# Altium footprint library PcbLib1.PcbLib: 13 footprints
Each footprint in its own frame and in the unit in brackets; x right, y up, seen from the top. Pads: shape width x height; smd on the part's side, far side on the other; paste and mask are expansions set on the pad; w line width, h text height; cw(c..) or ccw(c..) is an arc to the next point about the centre after c.
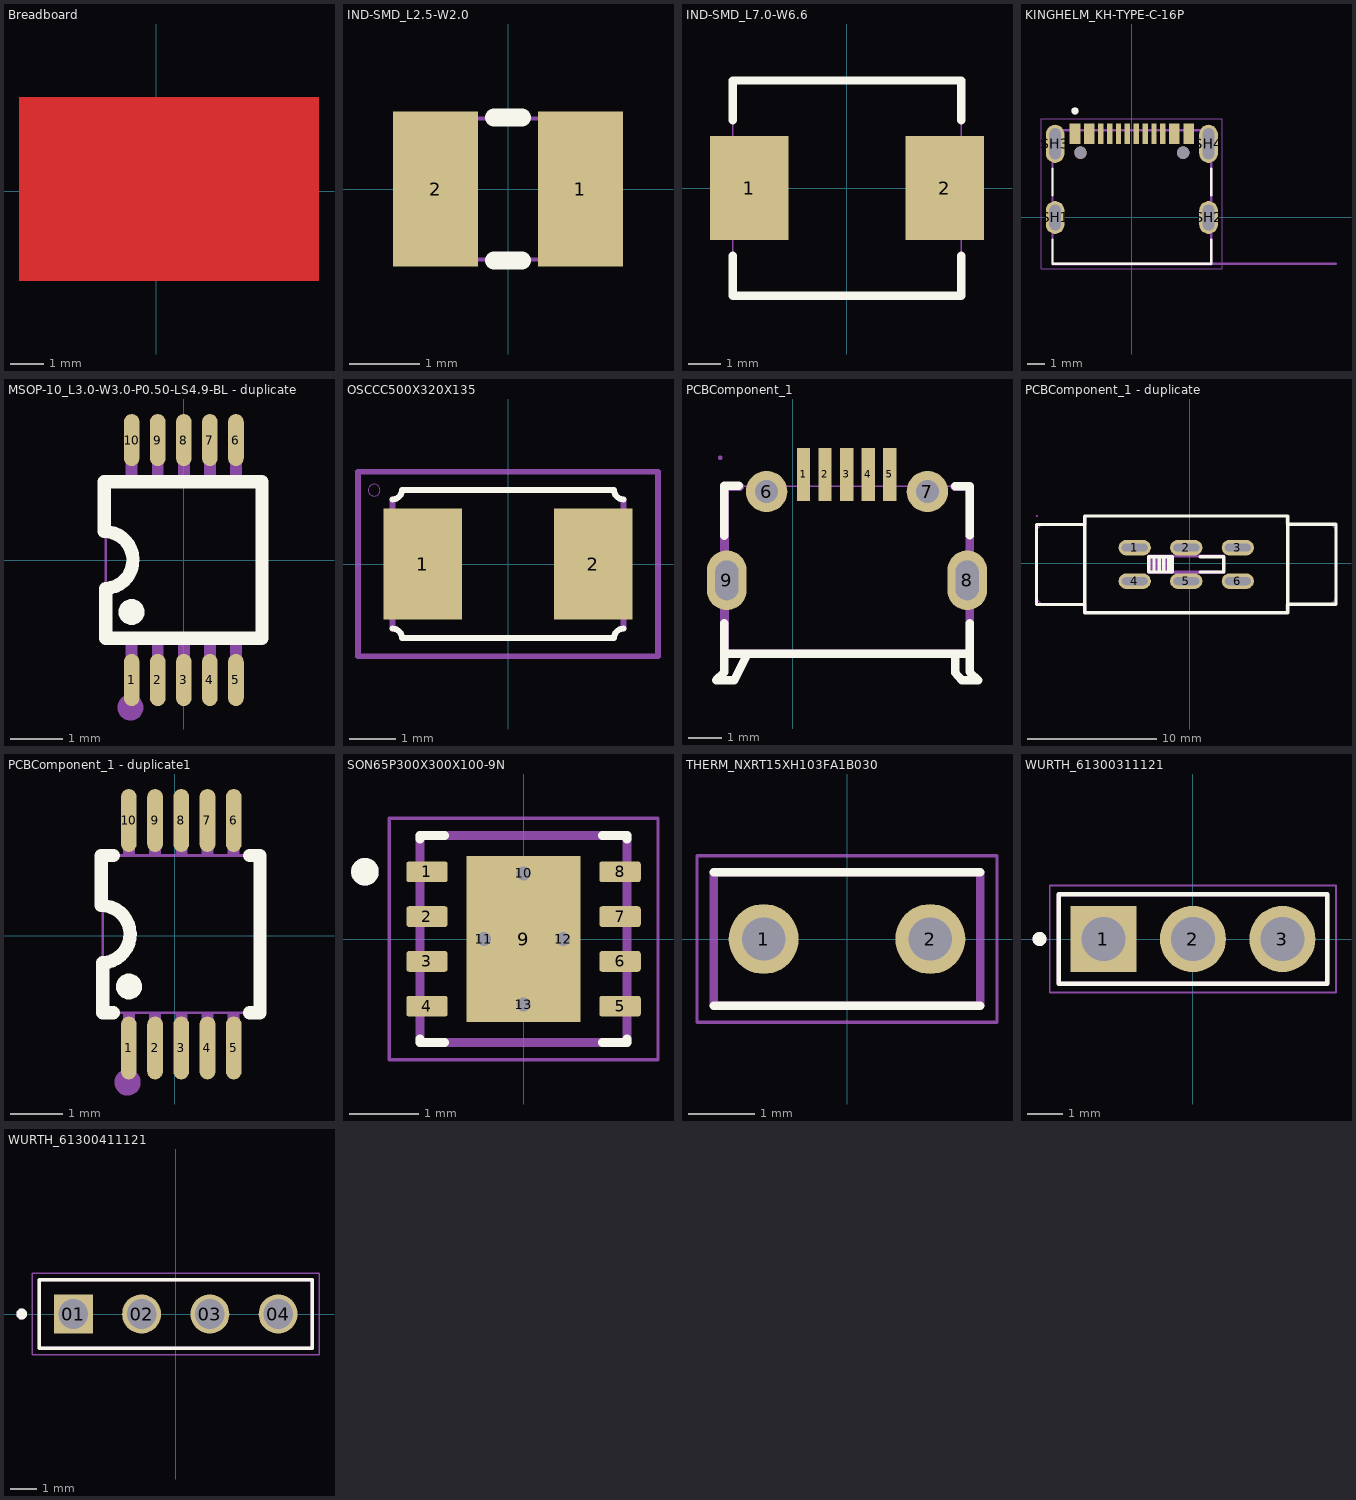
[diagram p0: the footprints below, top view; thin cyan lines are the x and y axes]

## Breadboard [mm]
Top Layer:
  rectangle: -4.064,-2.667 4.826,2.794
3D body "Breadboard 400.stp": height -0.07, standoff -8.48, extent -25.774,-40.534 30.226,45.466

## IND-SMD_L2.5-W2.0 [mm]
pads (2):
  rect 1.2x2.2 smd: 1(1.028,0) 2(-1.028,0)
Top Overlay:
  lines w0.254: -0.197,-1.016 0.197,-1.016 ; -0.197,1.016 0.197,1.016
Mechanical 15:
  region: -1.25,1 -0.45,1 -0.45,-1 -1.25,-1
  region: 0.45,1 1.25,1 1.25,-1 0.45,-1
  region: -1.16,-0.97 -1.16,-0.995 -1.195,-1.03 -1.245,-1.03 -1.28,-0.995 -1.28,-0.97 -1.28,-0.945 -1.245,-0.91 -1.195,-0.91 -1.16,-0.945
  lines w0.051: -1.25,-1 -1.25,1 1.25,1 1.25,-1 -1.25,-1

## IND-SMD_L7.0-W6.6 [mm]
pads (2):
  rect 2.4x3.2 smd: 1(-3,0) 2(3,0)
Top Overlay:
  lines w0.254: -3.5,-2.081 -3.5,-3.3 -3.49,-3.3 3.5,-3.3 3.5,-2.081 ; -3.5,2.081 -3.5,3.3 3.48,3.3 3.5,3.28 ; 3.5,2.081 3.5,3.3
Mechanical 15:
  region: -1.9,-1.5 -3.5,-1.5 -3.5,1.5 -1.9,1.5
  region: 1.9,1.5 3.5,1.5 3.5,-1.5 1.9,-1.5
  region: -3.44,-3.3 -3.44,-3.325 -3.475,-3.36 -3.525,-3.36 -3.56,-3.325 -3.56,-3.3 -3.56,-3.275 -3.525,-3.24 -3.475,-3.24 -3.44,-3.275
  lines w0.051: -3.5,-3.3 3.5,-3.3 3.5,3.3 -3.5,3.3 -3.5,-3.3

## KINGHELM_KH-TYPE-C-16P [mm]
height 3.41
pads (18):
  rect 0.6x1.15 smd: A1_B12(-3.2,4.725) A4_B9(-2.4,4.725) A9_B4(2.4,4.725) A12_B1(3.2,4.725)
  rect 0.3x1.15 smd: A5(-1.25,4.725) A6(-0.25,4.725) A7(0.25,4.725) A8(1.25,4.725) B5(1.75,4.725) B6(0.75,4.725) B7(-0.75,4.725) B8(-1.75,4.725)
  oval 1.05x1.85 hole 0.65 slot 1.45 at 90 deg: SH1(-4.32,0) SH2(4.32,0)
  oval 1.05x2.15 hole 0.65 slot 1.75 at 90 deg: SH3(-4.32,4.15) SH4(4.32,4.15)
  round 0.7 hole 0.7 unplated: ""(-2.89,3.65) ""(2.89,3.65)
Top Overlay:
  circle w0.2: c-3.2,6 r0.1
  lines w0.127: -4.47,-1.25 -4.47,-2.6 4.47,-2.6 4.47,-1.25 ; -4.47,1.25 -4.47,2.75 ; 4.47,1.25 4.47,2.75
Mechanical 13:
  circle w0.2: c-3.2,6 r0.1
  lines w0.127: 11.5,-2.6 4.47,-2.6 ; -4.47,-2.6 4.47,-2.6 ; -4.47,-2.6 -4.47,4.91 4.47,4.91 4.47,-2.6 ; -4.47,-2.6 -4.47,-2.64 4.47,-2.64 4.47,-2.6
  text "PCB EDGE" at 5.5,-2.25 h0.81
Mechanical 15:
  lines w0.05: -5.095,-2.89 5.095,-2.89 5.095,5.55 -5.095,5.55 -5.095,-2.89
3D body "step_temp.STEP": height 3.41, standoff -1.1, extent -4.47,-2.667 4.47,5.143

## MSOP-10_L3.0-W3.0-P0.50-LS4.9-BL - duplicate [mm]
pads (10):
  oval 0.3x1 smd: 1(-1,-2.3) 2(-0.5,-2.3) 3(0,-2.3) 4(0.5,-2.3) 5(1,-2.3) 6(1,2.3) 7(0.5,2.3) 8(0,2.3) 9(-0.5,2.3) 10(-1,2.3)
Top Overlay:
  region: -1.243,-1 -1.243,-0.952 -1.206,-0.862 -1.138,-0.794 -1.048,-0.757 -0.952,-0.757 -0.862,-0.794 -0.794,-0.862 -0.757,-0.952 -0.757,-1 -0.757,-1.048 -0.794,-1.138 -0.862,-1.206 -0.952,-1.243 -1.048,-1.243 -1.138,-1.206 -1.206,-1.138 -1.243,-1.048
  lines w0.254: 1.3,1.5 1.5,1.5 ; 1.5,1.5 -1.3,1.5 -1.524,1.5 -1.524,0.546 cw(c-1.522,0) -1.499,-0.546 -1.499,-1.5 -1.3,-1.5 1.3,-1.5 1.5,-1.5 1.5,1.5
Mechanical 6:
  circle w0.25: c-1.024,-2.828 r0.125
Mechanical 15:
  region: -0.94,-1 -0.94,-1.025 -0.975,-1.06 -1.025,-1.06 -1.06,-1.025 -1.06,-1 -1.06,-0.975 -1.025,-0.94 -0.975,-0.94 -0.94,-0.975
  region: -1.11,1.49 -1.11,1.93 -0.89,1.93 -0.89,1.49
  region: -1.11,1.92 -1.11,2.45 -0.89,2.45 -0.89,1.92
  region: -0.61,1.49 -0.61,1.93 -0.39,1.93 -0.39,1.49
  region: -0.61,1.92 -0.61,2.45 -0.39,2.45 -0.39,1.92
  region: -0.11,1.49 -0.11,1.93 0.11,1.93 0.11,1.49
  region: -0.11,1.92 -0.11,2.45 0.11,2.45 0.11,1.92
  region: 0.39,1.49 0.39,1.93 0.61,1.93 0.61,1.49
  region: 0.39,1.92 0.39,2.45 0.61,2.45 0.61,1.92
  region: 0.89,1.49 0.89,1.93 1.11,1.93 1.11,1.49
  region: 0.89,1.92 0.89,2.45 1.11,2.45 1.11,1.92
  region: 0.89,-1.93 0.89,-1.49 1.11,-1.49 1.11,-1.93
  region: 0.89,-2.45 0.89,-1.92 1.11,-1.92 1.11,-2.45
  region: 0.39,-1.93 0.39,-1.49 0.61,-1.49 0.61,-1.93
  region: 0.39,-2.45 0.39,-1.92 0.61,-1.92 0.61,-2.45
  region: -0.11,-1.93 -0.11,-1.49 0.11,-1.49 0.11,-1.93
  region: -0.11,-2.45 -0.11,-1.92 0.11,-1.92 0.11,-2.45
  region: -0.61,-1.93 -0.61,-1.49 -0.39,-1.49 -0.39,-1.93
  region: -0.61,-2.45 -0.61,-1.92 -0.39,-1.92 -0.39,-2.45
  region: -1.11,-1.93 -1.11,-1.49 -0.89,-1.49 -0.89,-1.93
  region: -1.11,-2.45 -1.11,-1.92 -0.89,-1.92 -0.89,-2.45
  lines w0.051: -1.5,-1.5 1.5,-1.5 1.5,1.5 -1.5,1.5 -1.5,-1.5

## OSCCC500X320X135 [mm]
pads (2):
  rect 1.7x2.4 smd: 1(-1.85,0) 2(1.85,0)
Top Overlay:
  lines w0.127: -2.5,-1.4 cw(c-2.5,-1.6) -2.3,-1.6 2.3,-1.6 cw(c2.5,-1.6) 2.5,-1.4 ; -2.5,1.4 ccw(c-2.5,1.6) -2.3,1.6 2.3,1.6 ccw(c2.5,1.6) 2.5,1.4
Mechanical 13:
  circle w0: c-2.9,1.6 r0.127
  lines w0.127: -2.5,-1.4 -2.5,1.4 ; 2.5,-1.4 2.5,1.4
Mechanical 15:
  lines w0.127: -3.25,-2 3.25,-2 3.25,2 -3.25,2 -3.25,-2

## PCBComponent_1 [mm]
pads (9):
  rect 0.4x1.6 smd paste-100 mask+0.05: 1(0.329,-108.446) 2(0.979,-108.446) 3(1.629,-108.446) 4(2.279,-108.446) 5(2.929,-108.446)
  round 1.25 hole 0.7: 6(-0.786,-108.966) 7(4.064,-108.966)
  oval 1.2x1.8 hole 0.7 slot 1.2 at 90 deg copper offset 0,0: 8(5.264,-111.646) 9(-1.986,-111.646)
Top Overlay:
  lines w0.254: -2.061,-112.938 -2.061,-113.859 ; -2.061,-110.294 -2.061,-110.059 -2.061,-108.796 -1.625,-108.796 ; -1.35,-113.858 -1.757,-114.659 -2.307,-114.658 -2.061,-114.412 -2.061,-113.859 ; 4.905,-108.809 5.339,-108.809 5.339,-108.86 5.339,-110.292 ; 4.908,-113.859 4.908,-114.431 5.095,-114.659 5.593,-114.659 5.339,-114.405 5.339,-113.859 ; 5.339,-112.938 5.339,-113.859 ; -2.061,-113.859 5.339,-113.859
Top Paste:
  drawing of 9 lines, arcs and shapes, not listed
Mechanical 6:
  region: -1.607,-108.936 -1.93,-108.936 -1.93,-113.732 5.216,-113.732 5.216,-108.936 4.893,-108.936 4.84,-108.936 4.766,-108.861 4.766,-108.756 4.84,-108.682 4.893,-108.682 5.343,-108.682 5.368,-108.682 5.415,-108.701 5.45,-108.737 5.47,-108.783 5.47,-108.809 5.47,-113.859 5.47,-113.884 5.45,-113.931 5.415,-113.966 5.368,-113.986 5.343,-113.986 -2.057,-113.986 -2.083,-113.986 -2.129,-113.966 -2.165,-113.931 -2.184,-113.884 -2.184,-113.859 -2.184,-108.809 -2.184,-108.783 -2.165,-108.737 -2.129,-108.701 -2.083,-108.682 -2.057,-108.682 -1.607,-108.682 -1.555,-108.682 -1.48,-108.756 -1.48,-108.861 -1.555,-108.936
Mechanical 15:
  region: -2.186,-111.146 -1.786,-111.146 -1.786,-112.146 -2.186,-112.146
  region: 5.064,-111.146 5.464,-111.146 5.464,-112.146 5.064,-112.146
  region: -0.986,-108.766 -0.586,-108.766 -0.586,-109.166 -0.986,-109.166
  region: 3.864,-108.766 4.264,-108.766 4.264,-109.166 3.864,-109.166
  region: 2.804,-107.946 3.054,-107.946 3.054,-108.946 2.804,-108.946
  region: 2.154,-107.946 2.404,-107.946 2.404,-108.946 2.154,-108.946
  region: 1.504,-107.946 1.754,-107.946 1.754,-108.946 1.504,-108.946
  region: 0.854,-107.946 1.104,-107.946 1.104,-108.946 0.854,-108.946
  region: 0.204,-107.946 0.454,-107.946 0.454,-108.946 0.204,-108.946
  region: -2.126,-107.946 -2.126,-107.971 -2.161,-108.006 -2.211,-108.006 -2.246,-107.971 -2.246,-107.946 -2.246,-107.921 -2.211,-107.886 -2.161,-107.886 -2.126,-107.921
  lines w0.051: -2.061,-113.859 5.339,-113.859 5.339,-108.809 -2.061,-108.809 -2.061,-113.859

## PCBComponent_1 - duplicate [mm]
pads (6):
  oval 2.5x1.2 hole 0.6 slot 2 at 0 deg paste-2539.97 mask+0.05: 1(-4.254,1.203) 2(-0.254,1.203) 3(3.746,1.203) 4(-4.254,-1.397) 5(-0.254,-1.397) 6(3.746,-1.397)
Top Overlay:
  lines w0.254: -8.128,-3.218 -11.874,-3.218 -11.874,3.003 -8.128,3.003 ; -3.16,0.473 -3.16,-0.696 -1.348,-0.696 ; -3.158,0.503 -2.094,0.503 -1.35,0.503 -1.35,-0.696 ; -2.751,-0.696 -2.751,0.503 ; -2.357,-0.696 -2.357,0.503 ; -2.002,-0.696 -2.002,0.503 ; -1.621,-0.696 -1.621,0.503 ; 0.84,-0.696 2.65,-0.696 2.65,0.503 0.842,0.503 ; 7.62,-3.197 11.366,-3.197 11.366,3.024 7.62,3.024 ; -8.128,-3.847 -8.128,3.653 7.62,3.653 7.62,-3.847 -8.128,-3.847
Mechanical 6:
  region: -3.254,0.453 -1.224,0.453 -1.224,-0.607 -3.244,-0.607 -3.234,-0.597
  region: -3.254,0.643 2.736,0.643 2.736,-0.817 -3.234,-0.817 -3.244,-0.827 -3.244,-0.607 2.536,-0.607 2.536,0.453 2.526,0.463 -3.254,0.463
Mechanical 15:
  region: 2.946,-1.197 4.546,-1.197 4.546,-1.597 2.946,-1.597
  region: -1.054,-1.197 0.546,-1.197 0.546,-1.597 -1.054,-1.597
  region: -5.054,-1.197 -3.454,-1.197 -3.454,-1.597 -5.054,-1.597
  region: 2.946,1.403 4.546,1.403 4.546,1.003 2.946,1.003
  region: -1.054,1.403 0.546,1.403 0.546,1.003 -1.054,1.003
  region: -5.054,1.403 -3.454,1.403 -3.454,1.003 -5.054,1.003
  region: -11.794,3.653 -11.794,3.628 -11.829,3.593 -11.879,3.593 -11.914,3.628 -11.914,3.653 -11.914,3.678 -11.879,3.713 -11.829,3.713 -11.794,3.678
  lines w0.051: -11.854,-2.577 ccw(c-11.234,-2.577) -11.234,-3.197 -8.004,-3.197 -8.004,-3.847 7.496,-3.847 7.496,-3.197 10.716,-3.197 ccw(c10.716,-2.567) 11.346,-2.567 11.346,2.403 ccw(c10.746,2.403) 10.746,3.003 7.496,3.003 7.496,3.653 -8.004,3.653 -8.014,3.003 -11.234,3.003 ccw(c-11.234,2.383) -11.854,2.383 -11.854,-2.577

## PCBComponent_1 - duplicate1 [mm]
pads (10):
  oval 0.3x1.2 smd: 1(-0.873,-2.138) 2(-0.373,-2.138) 3(0.127,-2.138) 4(0.627,-2.138) 5(1.127,-2.138) 6(1.127,2.202) 7(0.627,2.202) 8(0.127,2.202) 9(-0.373,2.202) 10(-0.873,2.202)
Top Overlay:
  region: -1.116,-0.968 -1.116,-0.92 -1.079,-0.83 -1.011,-0.762 -0.921,-0.725 -0.825,-0.725 -0.735,-0.762 -0.667,-0.83 -0.63,-0.92 -0.63,-0.968 -0.63,-1.016 -0.667,-1.106 -0.735,-1.174 -0.825,-1.211 -0.921,-1.211 -1.011,-1.174 -1.079,-1.106 -1.116,-1.016
  lines w0.254: -1.173,-1.468 -1.372,-1.468 -1.372,-0.514 ccw(c-1.395,0.032) -1.397,0.578 -1.397,1.532 -1.173,1.532 ; 1.427,-1.468 1.627,-1.468 1.627,1.532 1.427,1.532
Mechanical 6:
  circle w0.25: c-0.897,-2.796 r0.125
Mechanical 15:
  region: -0.983,-2.418 -0.983,-1.888 -0.763,-1.888 -0.763,-2.418
  region: -0.983,-1.898 -0.983,-1.458 -0.763,-1.458 -0.763,-1.898
  region: -0.483,-2.418 -0.483,-1.888 -0.263,-1.888 -0.263,-2.418
  region: -0.483,-1.898 -0.483,-1.458 -0.263,-1.458 -0.263,-1.898
  region: 0.017,-2.418 0.017,-1.888 0.237,-1.888 0.237,-2.418
  region: 0.017,-1.898 0.017,-1.458 0.237,-1.458 0.237,-1.898
  region: 0.517,-2.418 0.517,-1.888 0.737,-1.888 0.737,-2.418
  region: 0.517,-1.898 0.517,-1.458 0.737,-1.458 0.737,-1.898
  region: 1.017,-2.418 1.017,-1.888 1.237,-1.888 1.237,-2.418
  region: 1.017,-1.898 1.017,-1.458 1.237,-1.458 1.237,-1.898
  region: 1.017,1.952 1.017,2.482 1.237,2.482 1.237,1.952
  region: 1.017,1.522 1.017,1.962 1.237,1.962 1.237,1.522
  region: 0.517,1.952 0.517,2.482 0.737,2.482 0.737,1.952
  region: 0.517,1.522 0.517,1.962 0.737,1.962 0.737,1.522
  region: 0.017,1.952 0.017,2.482 0.237,2.482 0.237,1.952
  region: 0.017,1.522 0.017,1.962 0.237,1.962 0.237,1.522
  region: -0.483,1.952 -0.483,2.482 -0.263,2.482 -0.263,1.952
  region: -0.483,1.522 -0.483,1.962 -0.263,1.962 -0.263,1.522
  region: -0.983,1.952 -0.983,2.482 -0.763,2.482 -0.763,1.952
  region: -0.983,1.522 -0.983,1.962 -0.763,1.962 -0.763,1.522
  region: -0.813,-0.968 -0.813,-0.993 -0.848,-1.028 -0.898,-1.028 -0.933,-0.993 -0.933,-0.968 -0.933,-0.943 -0.898,-0.908 -0.848,-0.908 -0.813,-0.943
  lines w0.051: -1.373,-1.468 -1.373,1.532 1.627,1.532 1.627,-1.468 -1.373,-1.468

## SON65P300X300X100-9N [mm]
height 1
pads (13):
  rrect25% 0.6x0.3 smd mask+0: 1(-1.4,0.975) 2(-1.4,0.325) 3(-1.4,-0.325) 4(-1.4,-0.975) 5(1.4,-0.975) 6(1.4,-0.325) 7(1.4,0.325) 8(1.4,0.975)
  rect 1.65x2.4 smd paste-2 mask+0.07: 9(0,0)
  round 0.3 hole 0.2 mask+0: 10(0,0.95) 11(-0.575,0) 12(0.575,0) 13(0,-0.95)
Top Overlay:
  circle w0.2: c-2.3,0.975 r0.1
  lines w0.127: -1.5,-1.445 -1.5,-1.5 -1.145,-1.5 ; -1.5,1.445 -1.5,1.5 -1.145,1.5 ; 1.145,-1.5 1.5,-1.5 1.5,-1.445 ; 1.145,1.5 1.5,1.5 1.5,1.445
Top Paste:
  region: 0.735,-1.16 -0.735,-1.16 -0.735,-0.1 0.735,-0.1
  region: 0.735,0.1 -0.735,0.1 -0.735,1.16 0.735,1.16
Top Solder:
  drawing of 8 lines, arcs and shapes, not listed
Mechanical 13:
  circle w0.2: c-2.3,0.975 r0.1
  lines w0.127: -1.5,-1.5 -1.5,1.5 1.5,1.5 1.5,-1.5 -1.5,-1.5
Mechanical 15:
  lines w0.05: -1.95,-1.75 1.95,-1.75 1.95,1.75 -1.95,1.75 -1.95,-1.75
3D body "step_temp.STEP": height 1, standoff 0, extent -1.5,-1.5 1.5,1.5

## THERM_NXRT15XH103FA1B030 [mm]
pads (2):
  round 1.05 hole 0.65: 1(-1.25,0) 2(1.25,0)
Top Overlay:
  lines w0.127: -2,-1 2,-1 ; -2,1 2,1
Mechanical 13:
  lines w0.127: -2,-1 2,-1 2,1 -2,1 -2,-1
Mechanical 15:
  lines w0.05: -2.25,-1.25 -2.25,1.25 2.25,1.25 2.25,-1.25 -2.25,-1.25
3D body "step_temp.STEP": height 7.49, standoff -23.5, extent -2,-1 2,1

## WURTH_61300311121 [mm]
height 8.74
pads (3):
  rect 1.875x1.875 / inner round 1.875 / far side rect 1.875x1.875 hole 1.25: 1(-2.54,0)
  round 1.875 hole 1.25: 2(0,0) 3(2.54,0)
Top Overlay:
  circle w0.2: c-4.35,0 r0.1
  lines w0.127: -3.81,-1.27 -3.81,1.27 3.81,1.27 3.81,-1.27 -3.81,-1.27
Mechanical 13:
  circle w0.2: c-4.35,0 r0.1
  lines w0.127: -3.81,-1.27 -3.81,1.27 3.81,1.27 3.81,-1.27 -3.81,-1.27
Mechanical 15:
  lines w0.05: -4.06,-1.52 -4.06,1.52 4.06,1.52 4.06,-1.52 -4.06,-1.52
3D body "step_temp.STEP": height 7.27, standoff -4.27, extent -3.81,-1.27 3.81,1.27

## WURTH_61300411121 [mm]
pads (4):
  rect 1.45x1.45 / inner round 1.45 / far side rect 1.45x1.45 hole 1.1: 01(-3.81,0)
  round 1.45 hole 1.1: 02(-1.27,0) 03(1.27,0) 04(3.81,0)
Top Overlay:
  circle w0.2: c-5.73,0 r0.1
  lines w0.127: -5.08,-1.27 -5.08,1.27 5.08,1.27 5.08,-1.27 -5.08,-1.27
Mechanical 13:
  circle w0.2: c-5.73,0 r0.1
  lines w0.127: -5.08,-1.27 -5.08,1.27 5.08,1.27 5.08,-1.27 -5.08,-1.27
Mechanical 15:
  lines w0.05: -5.33,-1.52 -5.33,1.52 5.33,1.52 5.33,-1.52 -5.33,-1.52
3D body "step_temp.STEP": height 7.27, standoff -4.27, extent -5.08,-1.27 5.08,1.27